# EAGLE library part 662010230822 (library Wurth_Elektronik_Electromechanic_Wire_to_Board_Connectors_rev15c)
WR-MPC3 3.00mm Male Dual Row SMT Angled Header Through Hole Retention Clip, 10 Pins=>Code : Con_WTB_MPC3_2_PCB_SMT_662010230822 <http://katalog.we-online.de/media/thumbs2/eican/thb_Con_WTB_MPC3_2_PCB_SMT_6620xx230822_pf2.jpg> Details see: http://katalog.we-online.de/en/em/662_0xx_230_822 Created 2014-06-06, Karrer Zheng 2014 (C) Würth Elektronik
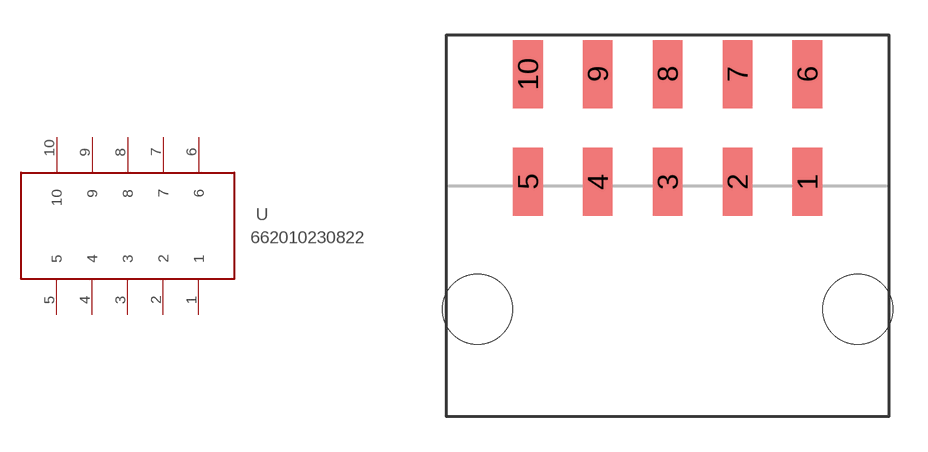
[diagram p351: symbol with the pads of 662010230822; footprint 662010230822]

Designator prefix -

## 662010230822  [662010230822]
1  1
2  2
3  3
4  4
5  5
6  6
7  7
8  8
9  9
10  10

## Footprint 662010230822 (pad centres in mm)
WR-MPC3 3.00mm Male Dual Row SMT Angled Header Through Hole Retention Clip, 10 Pins
smd 1.27 x 2.92: 1 0,-2.31; 2 -3,-2.31; 3 -6,-2.31; 4 -9,-2.31; 5 -12,-2.31; 6 0,2.31; 7 -3,2.31; 8 -6,2.31; 9 -9,2.31; 10 -12,2.31
hole 3 at 2.16,-7.79
hole 3 at -14.16,-7.79